# EAGLE library part SMD-LED-RGB(6P-L6.0*W5.0*H4.0MM) (library Seeed-OPL-Diode)
304090150
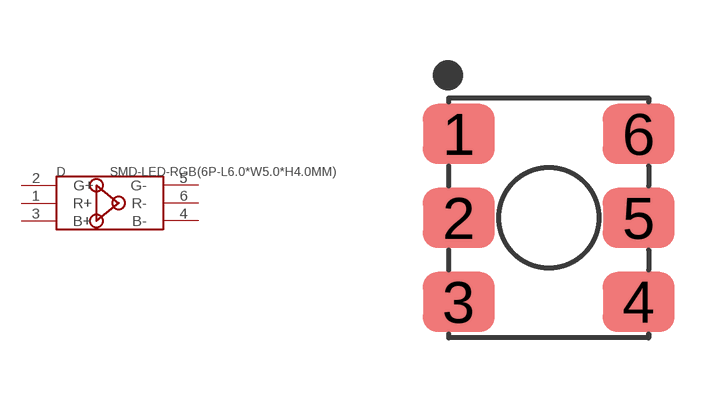
[diagram p2: symbol with the pads of LED6-SMD-5060; footprint LED6-SMD-5060]

Designator prefix D

## SMD-LED-RGB(6P-L6.0W5.0H4.0MM) (MPN: CLP6C-FKB-CM1Q1H1BB7R3R3; VALUE: CLP6C-FKB-CM1Q1H1BB7R3R3-5060)  [LED6-SMD-5060]
1  R+
2  G+
3  B+
4  B-
5  G-
6  R-

## Footprint LED6-SMD-5060 (pad centres in mm)
smd 1.8 x 1.5: 1 -2.25,2.1; 2 -2.25,0; 3 -2.25,-2.1; 4 2.25,-2.1; 5 2.25,0; 6 2.25,2.1